# Altium schematic symbol library capacitor_.SchLib: 2 symbols
Pins are listed as number, name and electrical type; pins without a type are passive.

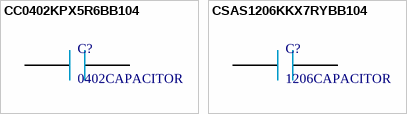
[diagram p0: symbols CC0402KPX5R6BB104 to CSAS1206KKX7RYBB104]

## CC0402KPX5R6BB104
designator C?, comment 0402CAPACITOR
Cap Ceramic 0.1uF 10V X5R 10% SMD 0402 85C Paper T/R; Manufacturer: Yageo; Manufacturer Part Number: CC0402KPX5R6BB104; Capacitance: .1uF; Voltage: 10VDC; Case Style: Ceramic Chip; Wire Form: Not Required; Product Length (mm): 1mm; Product Depth (mm): 0.5mm; Product Diameter (mm): Not Requiredmm; Tolerance (+ or -): 10%; Temp Coeff (Dielectric): X5R; Operating Temp Range: -55C to 85C; Mounting Style: Surface Mount; Package / Case: 0402; Construction: SMT Chip; Failure Rate: Not Required; Product Height (mm): 0.5mm; Packaging: Tape and Reel; Supplier 1: Arrow Europe; Supplier Part Number 1: CC0402KPX5R6BB104; Stock 1: 0
footprint CAPC1005X06N (Chip Capacitor, 2-Leads, Body 1.00x0.50mm, IPC Medium Density)
pins: 1, 2

## CSAS1206KKX7RYBB104
designator C?, comment 1206CAPACITOR
footprint CAPC1005X06N (Chip Capacitor, 2-Leads, Body 1.00x0.50mm, IPC Medium Density)
pins: 1, 2